# Altium schematic symbol library IC_L7805CV.Schlib: 1 symbol
Pins are listed as number, name and electrical type; pins without a type are passive.

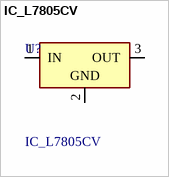
[diagram p0: symbol IC_L7805CV]

## IC_L7805CV
designator U?
Positive Voltage Regulator
pins: 1 IN (power), 2 GND (power), 3 OUT (power)